# EAGLE library part FM1701 (library FM1701)
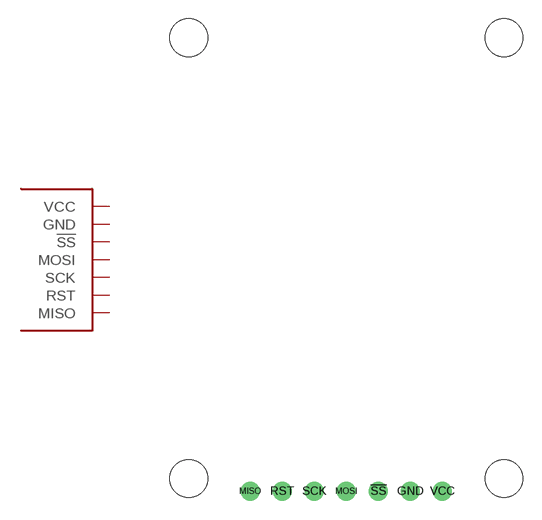
[diagram p0: symbol with the pads of FM1701; footprint FM1701]

Designator prefix -

## FM1701  [FM1701]
!SS  !SS  in
GND  GND  pwr
MISO  MISO  out
MOSI  MOSI  in
RST  RST  in
SCK  SCK  in
VCC  VCC  pwr

## Footprint FM1701 (pad centres in mm)
drill 1: !SS 2.54,0; GND 5.08,0; MISO -7.62,0; MOSI 0,0; RST -5.08,0; SCK -2.54,0; VCC 7.62,0
hole 3 at -12.5,36
hole 3 at 12.5,36
hole 3 at -12.5,1
hole 3 at 12.5,1